# Altium schematic symbol library ICs - Power.SchLib: 3 symbols
Pins are listed as number, name and electrical type; pins without a type are passive.

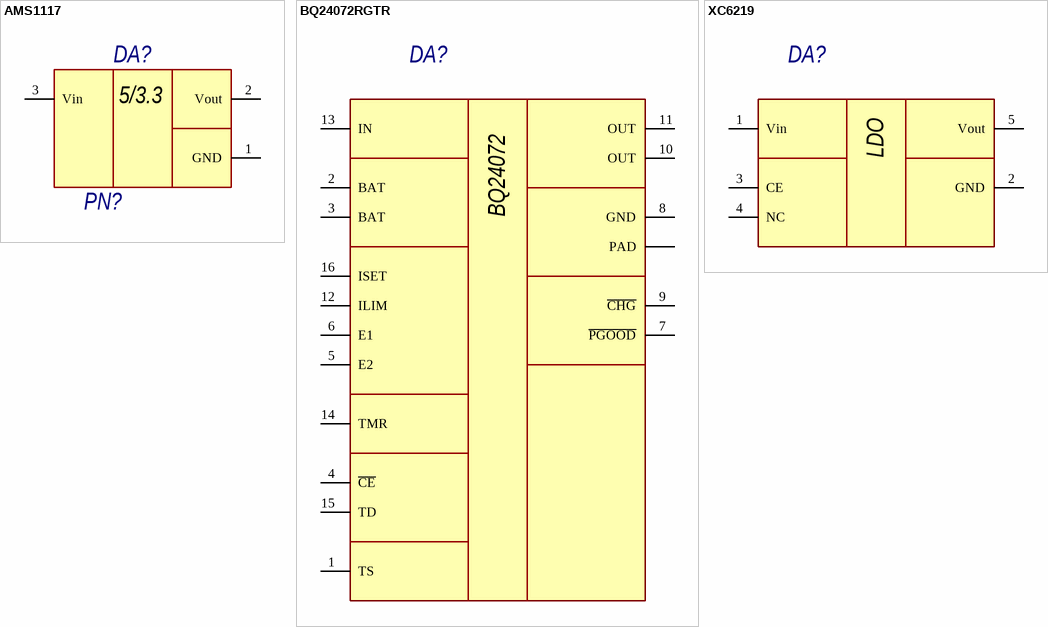
[diagram p0: symbols AMS1117 to XC6219]

## AMS1117
designator DA?  Part Number: PN?  (hidden comment: *)
pins: 1 GND, 2 Vout, 3 Vin
text: 5/3.3

## BQ24072RGTR
designator DA?  (value not drawn)
pins: 1 TS, 2 BAT, 3 BAT, 4 ~{CE}, 5 E2, 6 E1, 7 ~{PGOOD}, 8 GND, 9 ~{CHG}, 10 OUT, 11 OUT, 12 ILIM, 13 IN, 14 TMR, 15 TD, 16 ISET, PAD
text: BQ24072

## XC6219
designator DA?  (value not drawn)
pins: 1 Vin, 2 GND, 3 CE, 4 NC, 5 Vout
text: LDO